# Altium footprint library sonar.PcbLib: 11 footprints
Each footprint in its own frame and in the unit in brackets; x right, y up, seen from the top. Pads: shape width x height; smd on the part's side, far side on the other; paste and mask are expansions set on the pad; w line width, h text height; cw(c..) or ccw(c..) is an arc to the next point about the centre after c.
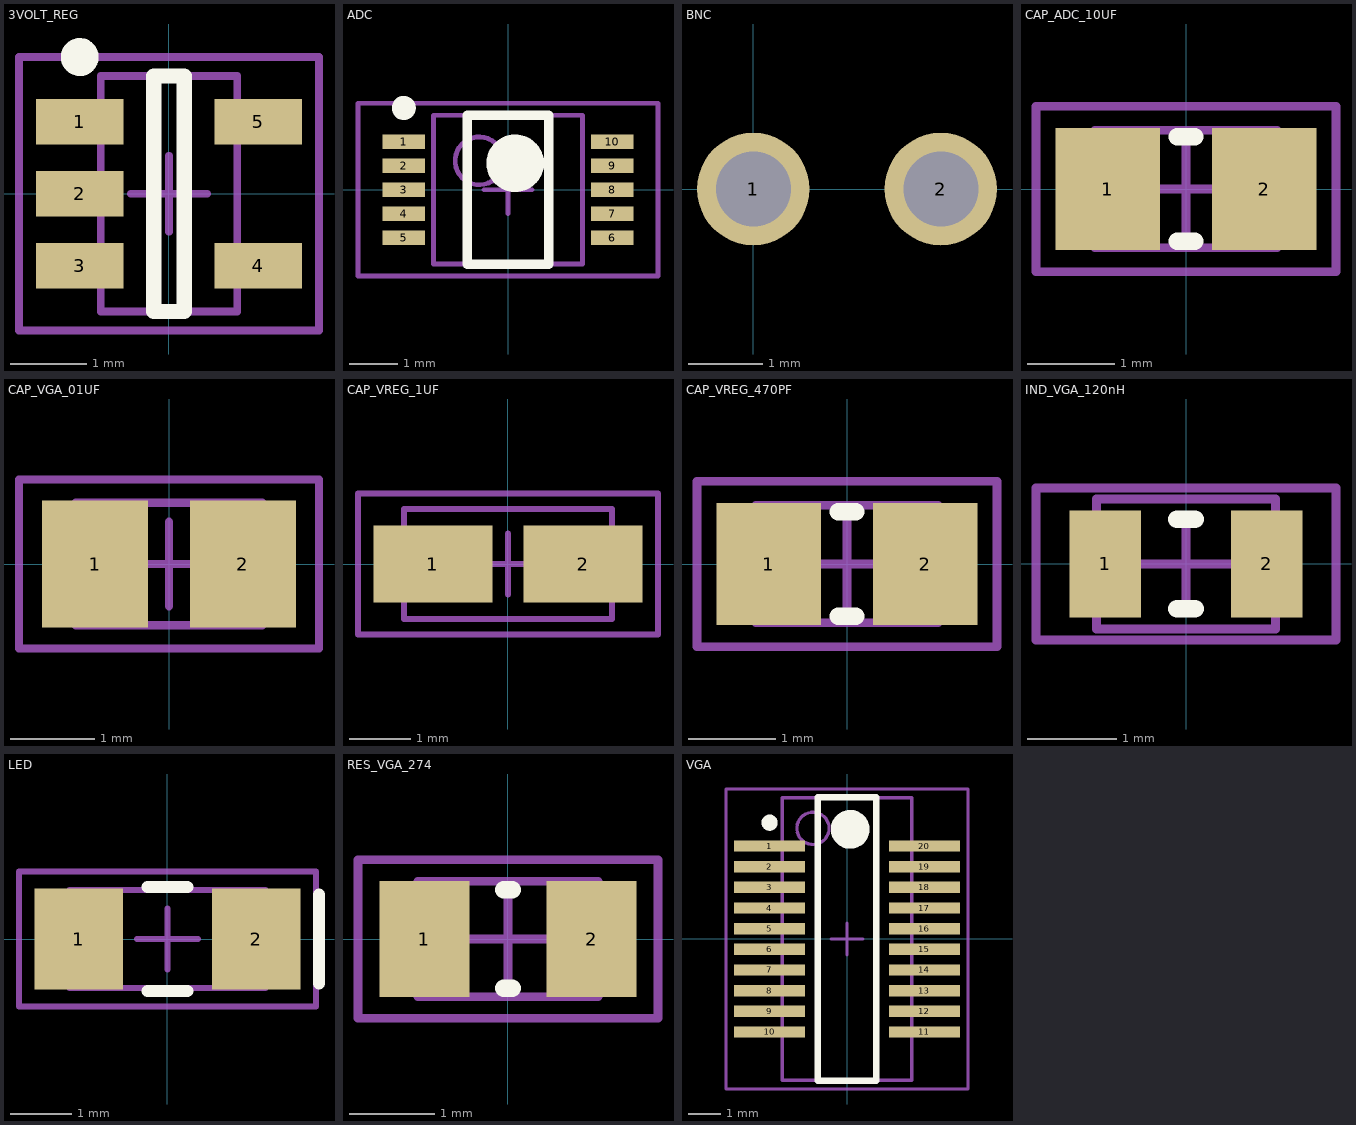
[diagram p0: the footprints below, top view; thin cyan lines are the x and y axes]

## 3VOLT_REG [mm] "SOT23, 5-Leads, Body 3.1x3.2mm (max), Pitch 0.95mm, IPC Medium Density"
height 1.45
pads (5):
  rect 1.15x0.6 smd: 1(-1.175,0.95) 2(-1.175,0) 3(-1.175,-0.95) 4(1.175,-0.95) 5(1.175,0.95)
Top Overlay:
  circle w0.25: c-1.175,1.8 r0.125
  lines w0.2: -0.2,-1.55 -0.2,1.55 0.2,1.55 0.2,-1.55 -0.2,-1.55
Mechanical 13:
  lines w0.1: -0.9,-1.55 0.9,-1.55 0.9,1.55 -0.9,1.55 -0.9,-1.55
Mechanical 15:
  lines w0.1: -0.5,0 0.5,0 ; 0,-0.5 0,0.5 ; -1.975,-1.8 1.975,-1.8 1.975,1.8 -1.975,1.8 -1.975,-1.8
3D body: height 1.45, standoff 0, extent -0.9,-1.55 0.9,1.55

## ADC [mm] "TSSOP, 10-Leads, Body 3.1x3.1mm (max), Pitch 0.50mm, IPC Medium Density"
height 1.1
pads (10):
  rect 0.889x0.305 smd: 1(-2.171,1) 2(-2.171,0.5) 3(-2.171,0) 4(-2.171,-0.5) 5(-2.171,-1) 6(2.17,-1) 7(2.17,-0.5) 8(2.17,0) 9(2.17,0.5) 10(2.17,1)
Top Overlay:
  circle w0.25: c-2.171,1.703 r0.125
  circle w0.6: c0.15,0.55 r0.3
  lines w0.2: -0.85,-1.55 -0.85,1.55 0.85,1.55 0.85,-1.55 -0.85,-1.55
Mechanical 13:
  circle w0.1: c-0.6,0.6 r0.5
  lines w0.1: -1.55,-1.55 -1.55,1.55 1.55,1.55 1.55,-1.55 -1.55,-1.55
Mechanical 15:
  lines w0.1: -0.5,0 0.5,0 ; 0,-0.5 0,0.5 ; -3.125,-1.8 -3.125,1.8 3.125,1.8 3.125,-1.8 -3.125,-1.8
3D body: height 1.1, standoff 0.05, extent -1.55,-1.55 1.55,1.55

## BNC [mil]
pads (2):
  round 60 hole 40: 1(0,0) 2(100,0)
3D body: height 625, standoff 0, extent -262.5,-2275 312.5,-2250
3D body: height 625, standoff 0, extent -275,-2250 300,106.25

## CAP_ADC_10UF [mm] "Chip Capacitor, 2-Leads, Body 2.0x1.3mm, IPC Medium Density"
height 0.95
pads (2):
  rect 1.2x1.4 smd: 1(-0.9,0) 2(0.9,0)
Top Overlay:
  lines w0.2: -0.1,-0.6 0.1,-0.6 ; -0.1,0.6 0.1,0.6
Mechanical 13:
  lines w0.1: -1.05,-0.675 -1.05,0.675 1.05,0.675 1.05,-0.675 -1.05,-0.675
Mechanical 15:
  lines w0.1: -0.5,0 0.5,0 ; 0,-0.5 0,0.5 ; -1.725,-0.95 -1.725,0.95 1.725,0.95 1.725,-0.95 -1.725,-0.95
3D body: height 0.95, standoff 0, extent -1.05,-0.675 1.05,0.675

## CAP_VGA_01UF [mm] "Chip Capacitor, 2-Leads, Body 2.0x1.3mm, IPC Medium Density"
height 0.94
pads (2):
  rect 1.25x1.5 smd: 1(-0.875,0) 2(0.875,0)
Mechanical 13:
  lines w0.1: -1.105,-0.725 -1.105,0.725 1.105,0.725 1.105,-0.725 -1.105,-0.725
Mechanical 15:
  lines w0.1: -0.5,0 0.5,0 ; 0,-0.5 0,0.5 ; -1.775,-1 -1.775,1 1.775,1 1.775,-1 -1.775,-1
3D body: height 0.94, standoff 0, extent -1.105,-0.725 1.105,0.725

## CAP_VREG_1UF [mm] "Molded Capacitor, 2-Leads, Body 3.2x1.6mm, IPC Medium Density"
height 1.8
pads (2):
  rect 1.95x1.25 smd: 1(-1.225,0) 2(1.225,0)
Mechanical 13:
  lines w0.1: -1.7,-0.9 1.7,-0.9 1.7,0.9 -1.7,0.9 -1.7,-0.9
Mechanical 15:
  lines w0.1: -0.5,0 0.5,0 ; 0,-0.5 0,0.5 ; -2.45,-1.15 2.45,-1.15 2.45,1.15 -2.45,1.15 -2.45,-1.15
3D body: height 1.8, standoff 0, extent -1.7,-0.9 1.7,0.9

## CAP_VREG_470PF [mm] "Chip Capacitor, 2-Leads, Body 2.0x1.3mm, IPC Medium Density"
height 0.7
pads (2):
  rect 1.2x1.4 smd: 1(-0.9,0) 2(0.9,0)
Top Overlay:
  lines w0.2: -0.1,-0.6 0.1,-0.6 ; -0.1,0.6 0.1,0.6
Mechanical 13:
  lines w0.1: -1.05,-0.675 -1.05,0.675 1.05,0.675 1.05,-0.675 -1.05,-0.675
Mechanical 15:
  lines w0.1: -0.5,0 0.5,0 ; 0,-0.5 0,0.5 ; -1.725,-0.95 -1.725,0.95 1.725,0.95 1.725,-0.95 -1.725,-0.95
3D body: height 0.7, standoff 0, extent -1.05,-0.675 1.05,0.675

## IND_VGA_120nH [mm] "Chip Inductor, 2-Leads, Body 1.9x1.3mm, IPC Medium Density"
height 0.85
pads (2):
  rect 0.8x1.2 smd: 1(-0.9,0) 2(0.9,0)
Top Overlay:
  lines w0.2: -0.1,-0.5 0.1,-0.5 ; -0.1,0.5 0.1,0.5
Mechanical 13:
  lines w0.1: -1,-0.725 -1,0.725 1,0.725 1,-0.725 -1,-0.725
Mechanical 15:
  lines w0.1: -0.5,0 0.5,0 ; 0,-0.5 0,0.5 ; -1.675,-0.85 -1.675,0.85 1.675,0.85 1.675,-0.85 -1.675,-0.85
3D body: height 0.85, standoff 0, extent -1,-0.725 1,0.725

## LED [mm] "Molded Diode, 2-Leads, Body 3.2x1.6mm, IPC Medium Density"
height 1.1
pads (2):
  rect 1.45x1.65 smd: 1(-1.45,0) 2(1.45,0)
Top Overlay:
  lines w0.2: -0.325,-0.85 0.325,-0.85 ; -0.325,0.85 0.325,0.85 ; 2.475,-0.725 2.475,0.725
Mechanical 13:
  rectangle: 1.17,-0.8 1.6,0.8
  lines w0.1: -1.6,-0.8 1.6,-0.8 1.6,0.8 -1.6,0.8 -1.6,-0.8
Mechanical 15:
  lines w0.1: -0.5,0 0.5,0 ; 0,-0.5 0,0.5 ; -2.425,-1.1 2.425,-1.1 2.425,1.1 -2.425,1.1 -2.425,-1.1
3D body: height 1.1, standoff 0, extent -1.6,-0.8 1.6,0.8

## RES_VGA_274 [mm] "Chip Resistor, 2-Leads, Body 2.0x1.3mm, IPC Medium Density"
height 0.6
pads (2):
  rect 1.05x1.35 smd: 1(-0.975,0) 2(0.975,0)
Top Overlay:
  lines w0.2: -0.05,-0.575 0.05,-0.575 ; -0.05,0.575 0.05,0.575
Mechanical 13:
  lines w0.1: -1.05,-0.675 -1.05,0.675 1.05,0.675 1.05,-0.675 -1.05,-0.675
Mechanical 15:
  lines w0.1: -0.5,0 0.5,0 ; 0,-0.5 0,0.5 ; -1.75,-0.925 -1.75,0.925 1.75,0.925 1.75,-0.925 -1.75,-0.925
3D body: height 0.6, standoff 0, extent -1.05,-0.675 1.05,0.675

## VGA [mm] "SOP, 20-Leads, Body 8.8x4.0mm (max), Pitch 0.64mm, IPC Medium Density"
height 1.75
pads (20):
  rect 2.2x0.35 smd: 1(-2.4,2.88) 2(-2.4,2.24) 3(-2.4,1.6) 4(-2.4,0.96) 5(-2.4,0.32) 6(-2.4,-0.32) 7(-2.4,-0.96) 8(-2.4,-1.6) 9(-2.4,-2.24) 10(-2.4,-2.88) 11(2.4,-2.88) 12(2.4,-2.24) 13(2.4,-1.6) 14(2.4,-0.96) 15(2.4,-0.32) 16(2.4,0.32) 17(2.4,0.96) 18(2.4,1.6) 19(2.4,2.24) 20(2.4,2.88)
Top Overlay:
  circle w0.25: c-2.4,3.605 r0.125
  circle w0.6: c0.1,3.4 r0.3
  lines w0.2: -0.9,-4.4 -0.9,4.4 0.9,4.4 0.9,-4.4 -0.9,-4.4
Mechanical 13:
  circle w0.1: c-1.055,3.43 r0.5
  lines w0.1: -2.005,-4.38 -2.005,4.38 2.005,4.38 2.005,-4.38 -2.005,-4.38
Mechanical 15:
  lines w0.1: -0.5,0 0.5,0 ; 0,-0.5 0,0.5 ; -3.75,-4.65 -3.75,4.65 3.75,4.65 3.75,-4.65 -3.75,-4.65
3D body: height 1.75, standoff 0.15, extent -2.005,-4.38 2.005,4.38